# Altium footprint library SYSPCB_03.PCBLIB: 98 footprints (part 7 of 7)
Each footprint in its own frame and in the unit in brackets; x right, y up, seen from the top. Pads: shape width x height; smd on the part's side, far side on the other; paste and mask are expansions set on the pad; w line width, h text height; cw(c..) or ccw(c..) is an arc to the next point about the centre after c.
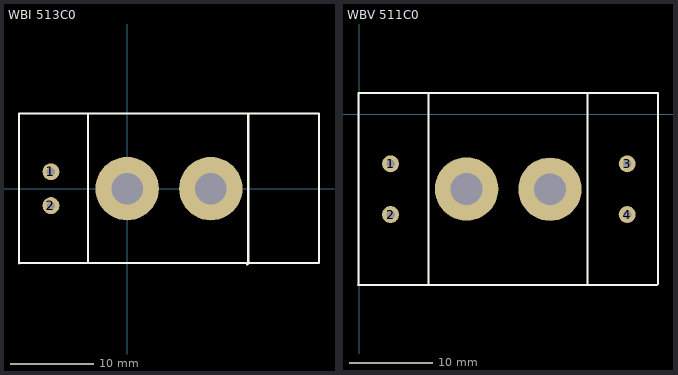
[diagram p6: the footprints below, top view; thin cyan lines are the x and y axes]

## WBI 513C0 [mil]
pads (4):
  round 80 hole 40: 1(-360,80) 2(-360,-80)
  round 300 hole 150: ""(0,0) ""(395,0)
TopOverlay:
  lines w10: -511,-353 -511,354 ; -509,-351 906,-351 906,356 -509,356 ; -185,-351 -185,356 ; 0,-100 -100,-100 -100,100 0,100 ; 0,0 2,2 ; 566,-359 573,-352 ; 572,-344 572,356

## WBV 511C0 [mil]
pads (6):
  round 80 hole 40: 1(149,-236) 2(149,-476) 3(1269,-236) 4(1269,-476)
  round 300 hole 150: ""(509,-355) ""(904,-356)
TopOverlay:
  lines w10: -5,-810 1410,-810 ; -2,-807 -2,-709 -2,-2 -2,98 ; 0,100 1415,100 1415,0 1415,-707 1415,-805 ; 329,-809 329,-716 329,-9 329,99 ; 1081,-809 1081,-700 1081,0 1081,99